# EAGLE library part SBTCJ-13-75+ (library SBTCJ-13-75+)
RF Power Divider 5 MHz ~ 1 GHz Isolation (Min) 20dB, 1.8 VSWR (Max), 9 Imbalance (Max) 6-SMD, Flat Leads Source: Datasheet <https://www.minicircuits.com/pdfs/SBTCJ-13-75 .pdf>
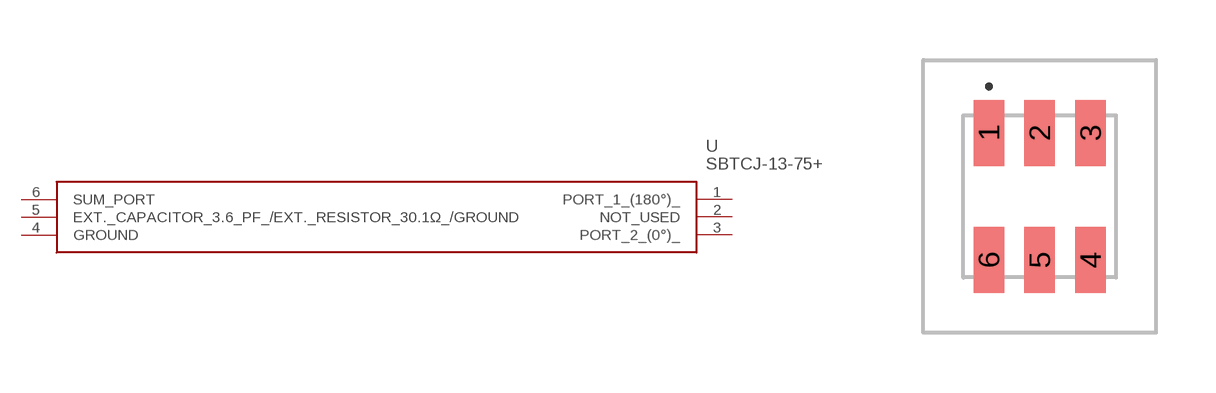
[diagram p0: symbol with the pads of SBTCJ1375; footprint SBTCJ1375]

Designator prefix U

## SBTCJ-13-75+ (Description: RF Power Divider 5 MHz ~ 1 GHz Isolation (Min) 20dB, 1.8 VSWR (Max), 9 Imbalance (Max) 6-SMD, Flat Leads; Height: 4.06mm; Manufacturer_Name: Mini-Circuits; Manufacturer_Part_Number: SBTCJ-13-75+)  [SBTCJ1375]
1  PORT_1_(180°)_
2  NOT_USED
3  PORT_2_(0°)_
4  GROUND
5  EXT._CAPACITOR_3.6_PF_/EXT._RESISTOR_30.1Ω_/GROUND
6  SUM_PORT

## Footprint SBTCJ1375 (pad centres in mm)
DB1627_2025-2.2
smd 0.76 x 1.65: 1 -1.27,1.59; 2 0,1.59; 3 1.27,1.59; 4 1.27,-1.59; 5 0,-1.59; 6 -1.27,-1.59